# Altium schematic symbol library 32U4.SchLib: 5 symbols
Pins are listed as number, name and electrical type; pins without a type are passive.

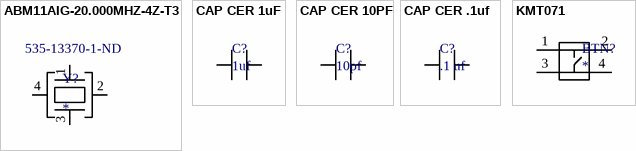
[diagram p0: symbols ABM11AIG-20.000MHZ-4Z-T3 to KMT071]

## ABM11AIG-20.000MHZ-4Z-T3
designator Y?  Supplier Part Number 1: 535-13370-1-ND
20MHZ Crystal Oscillator; Supplier 1: Digi-Key; ComponentLink1Description: Datasheet; ComponentLink1URL: http://www.abracon.com/AIGcrystals/ABM11AIG.pdf
footprint ABM11AIG
pins: 1 IN, 2 GND, 3 OUT, 4 GND

## CAP CER 1uF
designator C?, comment 1uf
1uF 0603 SMT Capacitor; ComponentLink1Description: Datasheet; ComponentLink1URL: http://search.murata.co.jp/Ceramy/image/img/A01X/partnumbering_e_01.pdf; Supplier 1: Digi-Key; Supplier Part Number 1: 399-7376-6-ND
footprint 1608[0603] (Footprint not found)
pins: 1, 2

## CAP CER 10PF
designator C?, comment 10pf
10pf 0603 SMT Capacitor; ComponentLink1Description: Datasheet; ComponentLink1URL: http://search.murata.co.jp/Ceramy/image/img/A01X/partnumbering_e_01.pdf; Supplier 1: Digi-Key; Supplier Part Number 1: 490-9682-1-ND
footprint 1608[0603] (Footprint not found)
pins: 1, 2

## CAP CER .1uf
designator C?, comment .1 uf
.1uF 0603 SMT Capacitor; ComponentLink1Description: Datasheet; ComponentLink1URL: http://search.murata.co.jp/Ceramy/image/img/A01X/partnumbering_e_01.pdf; Supplier 1: Digi-Key; Supplier Part Number 1: 490-4774-6-ND
footprint 1608[0603] (Footprint not found)
pins: 1, 2

## KMT071
designator BTN?
SWITCH TACTILE SPST-NO 0.05A 32V; Supplier 1: Digi-Key; Supplier Part Number 1: CKN10291CT-ND
footprint KTM071
pins: 1 28, 2 31, 3 29, 4 30